# EAGLE library part STEPPER-DRIVER-AP1034 (library Miranda)
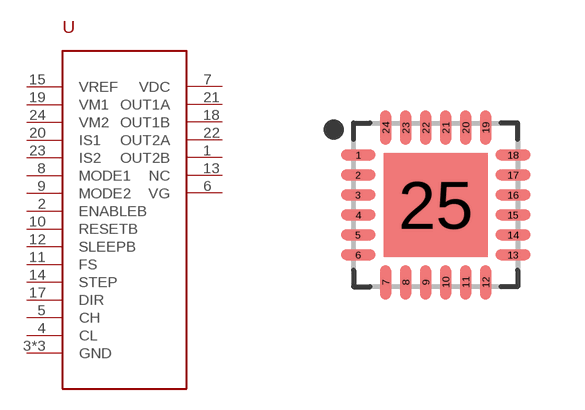
[diagram p0: symbol with the pads of STEPPER-DRIVER-AP1034; footprint STEPPER-DRIVER-AP1034]

Designator prefix U

## STEPPER-DRIVER-AP1034STEPPER-DRIVER-AP1034  [STEPPER-DRIVER-AP1034]
1  OUT2B  out
2  ENABLEB  in
3  GND  pwr
4  CL  in
5  CH  in
6  VG  out
7  VDC  out
8  MODE1  in
9  MODE2  in
10  RESETB  in
11  FS  in
12  SLEEPB  in
13  NC
14  STEP  in
15  VREF  in
16  GND  pwr
17  DIR  in
18  OUT1B  out
19  VM1  pwr
20  IS1  in
21  OUT1A  out
22  OUT2A  out
23  IS2  in
24  VM2  pwr
25  GND  pwr

## Footprint STEPPER-DRIVER-AP1034 (pad centres in mm)
24-QFN, 0.50 mm pitch, 4.00 X 4.00 X 1.00 mm body, 2.60 X 3.60 mm thermal pad 24-pin QFN package with 0.50 mm pitch with body size 4.00 X 4.00 X 1.00 mm and thermal pad size 2.60 X 3.60 mm
smd 0.86 x 0.27: 1 -1.935,1.25; 2 -1.935,0.75; 3 -1.935,0.25; 4 -1.935,-0.25; 5 -1.935,-0.75; 6 -1.935,-1.25; 13 1.935,-1.25; 14 1.935,-0.75; 15 1.935,-0.25; 16 1.935,0.25; 17 1.935,0.75; 18 1.935,1.25
smd 0.27 x 0.86: 7 -1.25,-1.935; 8 -0.75,-1.935; 9 -0.25,-1.935; 10 0.25,-1.935; 11 0.75,-1.935; 12 1.25,-1.935; 19 1.25,1.935; 20 0.75,1.935; 21 0.25,1.935; 22 -0.25,1.935; 23 -0.75,1.935; 24 -1.25,1.935
smd 2.6 x 2.6: 25 0,0